# Altium footprint library CONN_RF.PcbLib: 22 footprints (part 2 of 2)
Each footprint in its own frame and in the unit in brackets; x right, y up, seen from the top. Pads: shape width x height; smd on the part's side, far side on the other; paste and mask are expansions set on the pad; w line width, h text height; cw(c..) or ccw(c..) is an arc to the next point about the centre after c.
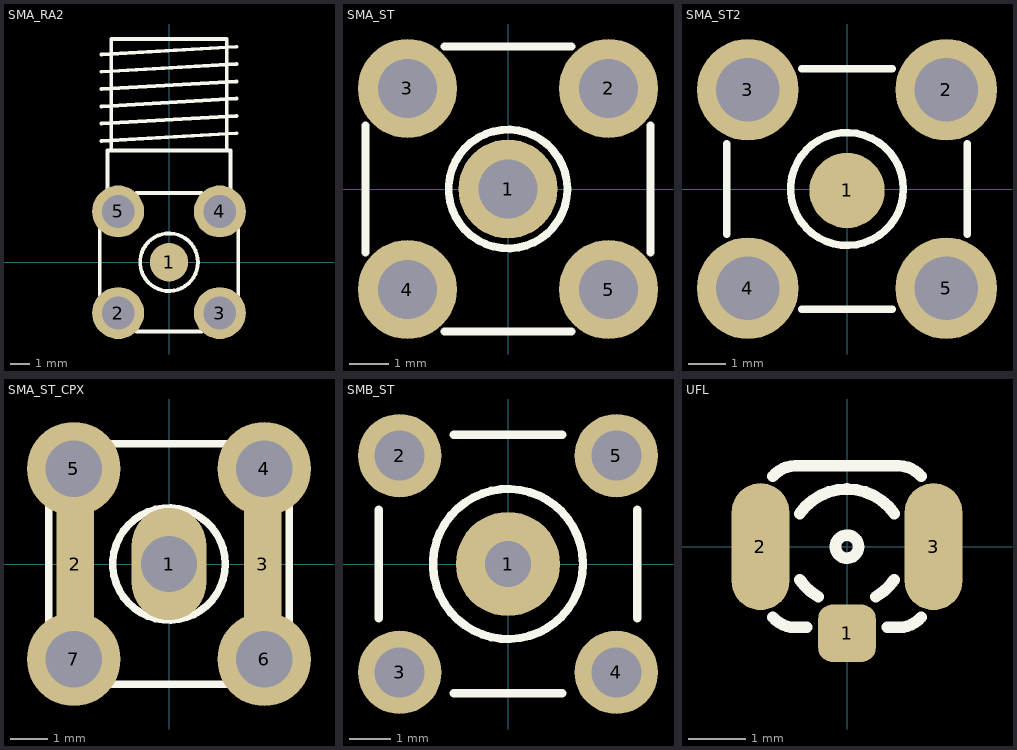
[diagram p1: the footprints below, top view; thin cyan lines are the x and y axes]

## SMA_RA2 [mm] "CONN, RF, COAX, SMA, RIGHT ANGLE, SMA-J-P-XX-RA-MT1smt pin with 4 tht pin ground"
pads (5):
  round 2 smd: 1(0,0)
  round 2.7 hole 1.7: 2(-2.64,-2.64) 3(2.64,-2.64) 4(2.64,2.64) 5(-2.64,2.64)
Top Overlay:
  circle w0.2: c0,0 r1.5
  lines w0.2: -3.6,-1.7 -3.6,1.7 ; -3.5,6.3 3.5,6.7 ; -3.5,7.2 3.5,7.6 ; -3.5,8.1 3.5,8.5 ; -3.5,9 3.5,9.4 ; -3.5,9.9 3.5,10.3 ; -3.5,10.8 3.5,11.2 ; -3.2,3.8 -3.2,5.8 3.2,5.8 3.2,3.8 ; -3,5.8 -3,11.6 3,11.6 3,5.8 ; -1.7,-3.6 1.7,-3.6 ; -1.7,3.6 1.7,3.6 ; 3.6,-1.7 3.6,1.7
3D body "SMA-J-P-XX-RA-MT1.step": height 9.8, standoff -2.66, extent -3.5,-3.54 3.5,11.56

## SMA_ST [mm]
pads (5):
  round 2.5 hole 1.5: 1(0,0) 2(2.54,2.54) 3(-2.54,2.54) 4(-2.54,-2.54) 5(2.54,-2.54)
Top Overlay:
  circle w0.2: c0,0 r1.5
  lines w0.2: -3.6,-1.6 -3.6,1.6 ; -1.6,-3.6 1.6,-3.6 ; -1.6,3.6 1.6,3.6 ; 3.6,-1.6 3.6,1.6
3D body "SMA-J-P-H-ST-TH1.STEP": height 9.6, standoff -3.87, extent -3.5,-3.5 3.5,3.5

## SMA_ST2 [mm] "SMA-J-P-X-ST-MT1 straight smt pin with 4 tht pin ground"
pads (5):
  round 2 smd: 1(0,-0.04)
  round 2.7 hole 1.7: 2(2.64,2.64) 3(-2.64,2.64) 4(-2.64,-2.64) 5(2.64,-2.64)
Top Overlay:
  circle w0.2: c0,0 r1.5
  lines w0.2: -3.2,-1.2 -3.2,1.2 ; -1.2,-3.2 1.2,-3.2 ; -1.2,3.2 1.2,3.2 ; 3.2,-1.2 3.2,1.2
3D body "SMA-J-P-X-ST-MT1.step": height 7.97, standoff -2.58, extent -3.175,-3.2 3.175,3.15

## SMA_ST_CPX [mm] "SMA_ST COMPLEX THD SMT"
height 0.254
pads (7):
  oval 2x3 / inner round 2 / far side round 2.5 hole 1.5: 1(0,0)
  rect 1x3 smd: 2(-2.5,0) 3(2.5,0)
  round 2.5 hole 1.5: 4(2.54,2.54) 5(-2.54,2.54) 6(2.54,-2.54) 7(-2.54,-2.54)
Top Overlay:
  circle w0.2: c0,0 r1.5
  lines w0.2: -3.2,-3.2 3.2,-3.2 3.2,3.2 -3.2,3.2 -3.2,-3.2

## SMB_ST [mm] "High Frequency SMB Connector"
height 8
pads (5):
  round 2.5 hole 1.1: 1(0,0)
  round 2 hole 1.2: 2(-2.6,2.6) 3(-2.6,-2.6) 4(2.6,-2.6) 5(2.6,2.6)
Top Overlay:
  circle w0.2: c0,0 r1.8
  lines w0.2: -3.1,-1.3 -3.1,1.3 ; -1.3,-3.1 1.3,-3.1 ; -1.3,3.1 1.3,3.1 ; 3.1,-1.3 3.1,1.3
3D body "SMB.STEP": height 7.6, standoff -3, extent -2.985,-2.985 2.985,2.985

## UFL [mm] "CONN RF, COAX UP, U.FL-R-SMT-1 2.8x2.8mm"
pads (3):
  rrect50% 1x1 smd: 1(0,-1.5)
  oval 1x2.2 smd: 2(-1.5,0) 3(1.5,0)
Top Overlay:
  circle w0.2: c0,0 r0.2
  lines w0.2: -1.283,-1.222 ccw(c-0.9,-0.9) -0.9,-1.4 -0.7,-1.4 ; -1.283,1.221 cw(c-0.9,0.9) -0.9,1.4 -0.7,1.4 0.9,1.4 cw(c0.9,0.9) 1.283,1.221 ; -0.819,-0.573 ccw(c0,0) -0.5,-0.866 ; -0.819,0.573 cw(c0,0) 0.819,0.573 ; 0.5,-0.866 ccw(c0,0) 0.819,-0.573 ; 0.7,-1.4 0.9,-1.4 ccw(c0.9,-0.9) 1.283,-1.222
3D body "SW3dPS-U.FL-R-SMT-1.STEP": height 1.25, standoff -0.01, extent -1.5,-1.55 1.5,1.55